# Altium footprint library lib_project.PcbLib: 8 footprints
Each footprint in its own frame and in the unit in brackets; x right, y up, seen from the top. Pads: shape width x height; smd on the part's side, far side on the other; paste and mask are expansions set on the pad; w line width, h text height; cw(c..) or ccw(c..) is an arc to the next point about the centre after c.
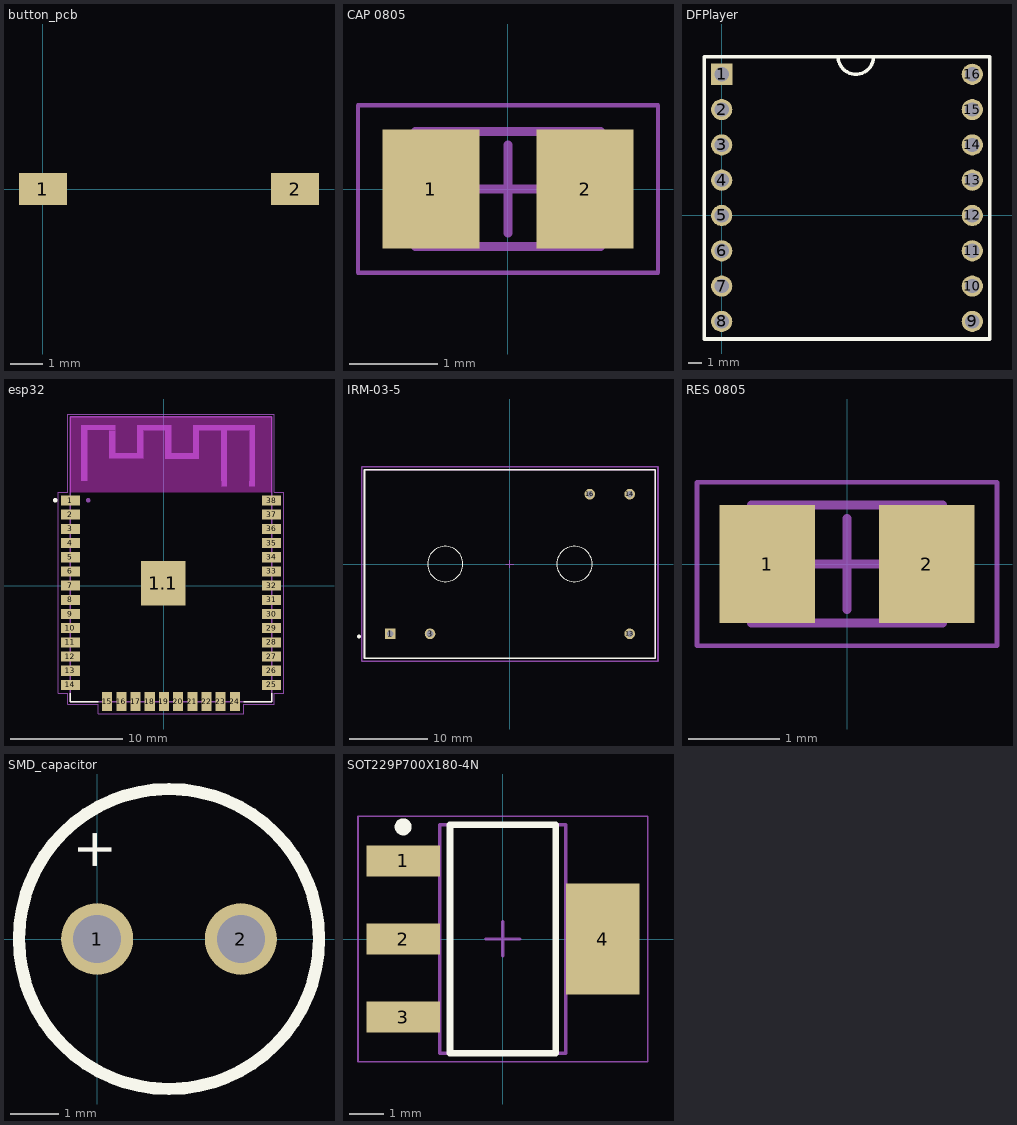
[diagram p0: the footprints below, top view; thin cyan lines are the x and y axes]

## button_pcb [mm]
pads (2):
  rect 1.5x1 smd: 1(0,0) 2(7.9,0)

## CAP 0805 [mm] "Chip Capacitor, 2-Leads, Body 2,00x1,20mm, IPC Medium Density"
height 0.6
pads (2):
  rect 1.1x1.35 smd: 1(-0.875,0) 2(0.875,0)
Top Assembly:
  lines w0.1: -1.05,-0.65 1.05,-0.65 1.05,0.65 -1.05,0.65 -1.05,-0.65
Top Courtyard:
  lines w0.05: -1.7,-0.95 1.7,-0.95 1.7,0.95 -1.7,0.95 -1.7,-0.95
  lines w0.1: -0.5,0 0.5,0 ; 0,-0.5 0,0.5
3D body "CAPC2012X06N.step": height 0.6, standoff 0, extent -1.05,-0.65 1.05,0.65

## DFPlayer [mil]
pads (16):
  rect 60x60 hole 40: 1(0,400)
  round 60 hole 40: 2(0,300) 3(0,200) 4(0,100) 5(0,0) 6(0,-100) 7(0,-200) 8(0,-300) 9(710,-300) 10(710,-200) 11(710,-100) 12(710,0) 13(710,100) 14(710,200) 15(710,300) 16(710,400)
Top Overlay:
  lines w10: 330,450 ccw(c380,450) 430,450 ; -50,-350 -50,450 760,450 760,-350 -50,-350
3D body: height 50, standoff 0, extent -50,-350 760,450

## esp32 [mm]
pads (39):
  rect 1.7x0.9 smd: 1(-8.365,7.62) 2(-8.365,6.35) 3(-8.365,5.08) 4(-8.365,3.81) 5(-8.365,2.54) 6(-8.365,1.27) 7(-8.365,0) 8(-8.365,-1.27) 9(-8.365,-2.54) 10(-8.365,-3.81) 11(-8.365,-5.08) 12(-8.365,-6.35) 13(-8.365,-7.62) 14(-8.365,-8.89) 25(9.635,-8.89) 26(9.635,-7.62) 27(9.635,-6.35) 28(9.635,-5.08) 29(9.635,-3.81) 30(9.635,-2.54) 31(9.635,-1.27) 32(9.635,0) 33(9.635,1.27) 34(9.635,2.54) 35(9.635,3.81) 36(9.635,5.08) 37(9.635,6.35) 38(9.635,7.62)
  rect 4x4 smd: 1.1(-0.065,0.21)
  rect 0.9x1.7 smd: 15(-5.08,-10.39) 16(-3.81,-10.39) 17(-2.54,-10.39) 18(-1.27,-10.39) 19(0,-10.39) 20(1.27,-10.39) 21(2.54,-10.39) 22(3.81,-10.39) 23(5.08,-10.39) 24(6.35,-10.39)
Top Overlay:
  circle w0.2: c-9.73,7.64 r0.1
  lines w0.127: -8.365,-9.635 -8.365,-10.385 -5.865,-10.385 ; 7.135,-10.385 9.635,-10.385 9.635,-9.635
Keep-Out Layer:
  region: -8.391,15.115 9.635,15.115 9.635,8.391 -8.391,8.391
  region: -8.377,15.115 9.635,15.115 9.635,8.377 -8.377,8.377
  region: -8.389,15.115 9.635,15.115 9.635,8.389 -8.389,8.389
  region: -8.391,15.115 9.635,15.115 9.635,8.391 -8.391,8.391
  region: -8.377,15.115 9.635,15.115 9.635,8.377 -8.377,8.377
  region: -8.389,15.115 9.635,15.115 9.635,8.389 -8.389,8.389
  region: -8.391,15.115 9.635,15.115 9.635,8.391 -8.391,8.391
  region: -8.377,15.115 9.635,15.115 9.635,8.377 -8.377,8.377
  region: -8.389,15.115 9.635,15.115 9.635,8.389 -8.389,8.389
Mechanical 4:
  circle w0.2: c-6.79,7.64 r0.1
  circle w0.2: c-6.79,7.64 r0.1
  region: -7.403,14.365 -6.865,14.365 -6.865,9.915 -7.403,9.915
  region: -7.406,14.365 -4.365,14.365 -4.365,13.939 -7.406,13.939
  region: -4.883,13.865 -4.365,13.865 -4.365,11.405 -4.883,11.405
  region: -4.881,11.865 -1.865,11.865 -1.865,11.399 -4.881,11.399
  region: -2.375,13.865 -1.865,13.865 -1.865,11.406 -2.375,11.406
  region: -2.371,14.365 0.635,14.365 0.635,13.896 -2.371,13.896
  region: 0.133,13.865 0.635,13.865 0.635,11.405 0.133,11.405
  region: 0.134,11.865 3.135,11.865 3.135,11.377 0.134,11.377
  region: 2.643,13.865 3.135,13.865 3.135,11.411 2.643,11.411
  region: 2.65,14.365 8.135,14.365 8.135,13.906 2.65,13.906
  region: 7.661,14.365 8.135,14.365 8.135,9.402 7.661,9.402
  region: 5.15,14.365 5.635,14.365 5.635,9.398 5.15,9.398
  region: 7.657,9.365 8.135,9.365 8.135,8.894 7.657,8.894
  region: 5.158,9.365 5.635,9.365 5.635,8.913 5.158,8.913
  region: -7.392,9.865 -6.865,9.865 -6.865,9.398 -7.392,9.398
  region: 2.643,14.365 3.135,14.365 3.135,12.916 2.643,12.916
  region: -7.403,14.365 -6.865,14.365 -6.865,9.915 -7.403,9.915
  region: -7.406,14.365 -4.365,14.365 -4.365,13.939 -7.406,13.939
  region: -4.883,13.865 -4.365,13.865 -4.365,11.405 -4.883,11.405
  region: -4.881,11.865 -1.865,11.865 -1.865,11.399 -4.881,11.399
  region: -2.375,13.865 -1.865,13.865 -1.865,11.406 -2.375,11.406
  region: -2.371,14.365 0.635,14.365 0.635,13.896 -2.371,13.896
  region: 0.133,13.865 0.635,13.865 0.635,11.405 0.133,11.405
  region: 0.134,11.865 3.135,11.865 3.135,11.377 0.134,11.377
  region: 2.643,13.865 3.135,13.865 3.135,11.411 2.643,11.411
  region: 2.65,14.365 8.135,14.365 8.135,13.906 2.65,13.906
  region: 7.661,14.365 8.135,14.365 8.135,9.402 7.661,9.402
  region: 5.15,14.365 5.635,14.365 5.635,9.398 5.15,9.398
  region: 7.657,9.365 8.135,9.365 8.135,8.894 7.657,8.894
  region: 5.158,9.365 5.635,9.365 5.635,8.913 5.158,8.913
  region: -7.392,9.865 -6.865,9.865 -6.865,9.398 -7.392,9.398
  region: 2.643,14.365 3.135,14.365 3.135,12.916 2.643,12.916
  lines w0.127: -8.365,-10.39 9.635,-10.39 ; -8.365,-10.39 -8.365,15.11 ; -8.365,-10.39 9.635,-10.39 ; -8.365,-10.39 -8.365,15.11 ; -8.365,15.11 9.635,15.11 ; -8.365,15.11 9.635,15.11 ; 9.635,-10.39 9.635,15.11 ; 9.635,-10.39 9.635,15.11
Mechanical 16:
  lines w0.05: -9.465,-9.635 -8.615,-9.635 -8.615,-10.635 -5.865,-10.635 -5.865,-11.49 7.135,-11.49 7.135,-10.635 9.885,-10.635 9.885,-9.635 10.735,-9.635 10.735,8.365 9.885,8.365 9.885,15.365 -8.615,15.365 -8.615,8.365 -9.465,8.365 -9.465,-9.635
3D body "ESP-WROOM-32--3DModel-STEP-56544.STEP": height 3.25, standoff 0, extent -8.378,-10.414 9.622,15.086

## IRM-03-5 [mm] "Alimentation montage PCB AC/DC (PSU), ITE et Médicale, 1 sortie, 3 W, 5 V, 600 mA"
pads (5):
  rect 1.35x1.35 hole 0.85 paste-1000 mask+0: 1(-15.24,-8.89)
  round 1.35 hole 0.85 paste-1000 mask+0: 3(-10.16,-8.89) 13(15.24,-8.89) 14(15.24,8.89) 16(10.16,8.89)
Top Overlay:
  circle w0.25: c-19.2,-9.225 r0.125
  circle w0.15: c8.22,0 r2.25
  circle w0.15: c-8.22,0 r2.25
  lines w0.2: -18.5,-12 -18.5,12 18.5,12 18.5,-12 -18.5,-12
Mechanical 10:
  lines w0.2: -18.85,-12.35 -18.85,12.35 18.85,12.35 18.85,-12.35 -18.85,-12.35
Mechanical 12:
  lines w0.15: -18.5,-12 -18.5,12 18.5,12 18.5,-12 -18.5,-12
Mechanical 15:
  lines w0.1: -0.5,0 0.5,0 ; 0,-0.5 0,0.5
  lines w0.2: -18.85,-12.35 -18.85,12.35 18.85,12.35 18.85,-12.35 -18.85,-12.35
3D body "3dmodel.step": height 0.25, standoff 0, extent -18.85,-12.35 18.85,12.35

## RES 0805 [mm] "Chip Resistor, 2-Leads, Body 2,00x1,20mm, IPC Medium Density"
height 0.6
pads (2):
  rect 1.05x1.3 smd: 1(-0.875,0) 2(0.875,0)
Top Assembly:
  lines w0.1: -1.05,-0.65 1.05,-0.65 1.05,0.65 -1.05,0.65 -1.05,-0.65
Top Courtyard:
  lines w0.05: -1.65,-0.9 1.65,-0.9 1.65,0.9 -1.65,0.9 -1.65,-0.9
  lines w0.1: -0.5,0 0.5,0 ; 0,-0.5 0,0.5
3D body "RESC2012X06N.step": height 0.6, standoff 0, extent -1.05,-0.65 1.05,0.65

## SMD_capacitor [mm]
pads (2):
  round 1.5 hole 1: 1(0,0) 2(3,0)
Top Overlay:
  circle w0.254: c1.5,0 r3.132
  text "+" at 0.3,1.4 h0.8

## SOT229P700X180-4N [mm] "SOT223, 4-Leads, Body 6,50x7,00mm (avg), Pitch 2,29mm, IPC Medium Density"
height 1.8
pads (4):
  rect 2.15x0.9 smd: 1(-2.925,2.29) 2(-2.925,0) 3(-2.925,-2.29)
  rect 2.15x3.25 smd: 4(2.925,0)
Top Overlay:
  circle w0.25: c-2.925,3.29 r0.125
  lines w0.2: -1.55,-3.35 1.55,-3.35 1.55,3.35 -1.55,3.35 -1.55,-3.35
Top Assembly:
  lines w0.1: -1.85,-3.35 1.85,-3.35 1.85,3.35 -1.85,3.35 -1.85,-3.35
Top Courtyard:
  lines w0.05: -4.25,-3.6 4.25,-3.6 4.25,3.6 -4.25,3.6 -4.25,-3.6
  lines w0.1: -0.5,0 0.5,0 ; 0,-0.5 0,0.5
3D body "SOT229P700X180-4N.step": height 1.8, standoff 0, extent -3.5,-3.35 3.5,3.35